# Altium schematic symbol library SamacSys.SchLib: 1 symbol
Pins are listed as number, name and electrical type; pins without a type are passive.

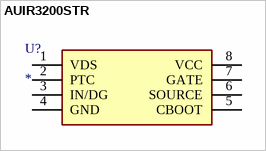
[diagram p0: symbol AUIR3200STR]

## AUIR3200STR
designator U?
Integrated Circuit; Manufacturer_Name: Infineon; Manufacturer_Part_Number: AUIR3200STR; Datasheet Link: https://componentsearchengine.com/Datasheets/2/AUIR3200STR.pdf; Height: 1.75mm
footprint SOIC127P600X175-8N
pins: 1 VDS, 2 PTC, 3 IN/DG, 4 GND, 5 CBOOT, 6 SOURCE, 7 GATE, 8 VCC